# Altium footprint library SMD_push_button_10mmx4mm.PcbLib: 1 footprints
Each footprint in its own frame and in the unit in brackets; x right, y up, seen from the top. Pads: shape width x height; smd on the part's side, far side on the other; paste and mask are expansions set on the pad; w line width, h text height; cw(c..) or ccw(c..) is an arc to the next point about the centre after c.
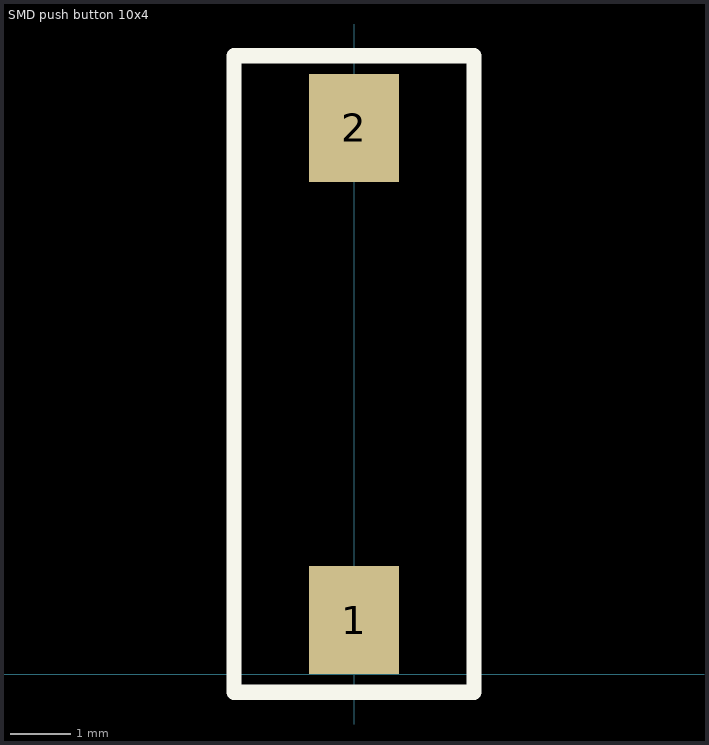
[diagram p0: the footprint, top view; thin cyan lines are the x and y axes]

## SMD push button 10x4 [mm]
pads (2):
  rect 1.5x1.8 smd: 1(0,0.9) 2(0,9.1)
Top Overlay:
  lines w0.254: -2,-0.3 -2,0 -2,10.3 2,10.3 2,-0.3 -2,-0.3